# EAGLE library part SST39SF040-70-4C-WHE-T (library SST39SF040_TSOP)
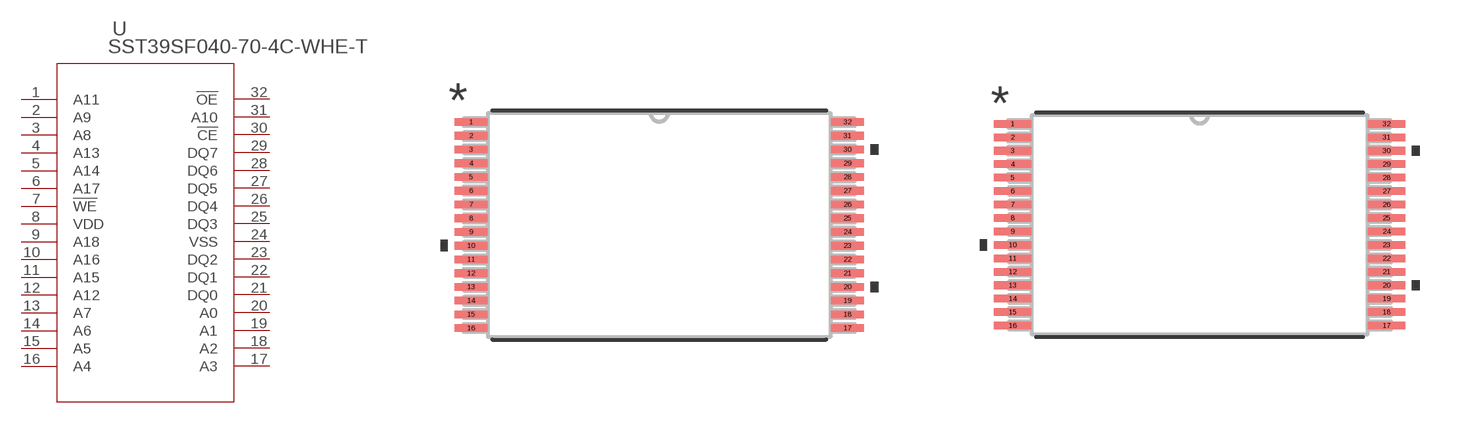
[diagram p0: symbol with the pads of TSOP32_WH_SST_MCH; footprints TSOP32_WH_SST_MCH, TSOP32_WH_SST_MCH-M]

Designator prefix U

## SST39SF040-70-4C-WHE-T (COPYRIGHT: Copyright (C) 2022 Ultra Librarian. All rights reserved.; MANUFACTURER_PART_NUMBER: SST39SF040-70-4C-WHE-T; MFR_NAME: Microchip)  [TSOP32_WH_SST_MCH]
1  A11  in
2  A9  in
3  A8  in
4  A13  in
5  A14  in
6  A17  in
7  !WE  pas
8  VDD  pwr
9  A18  in
10  A16  in
11  A15  in
12  A12  in
13  A7  in
14  A6  in
15  A5  in
16  A4  in
17  A3  in
18  A2  in
19  A1  in
20  A0  in
21  DQ0
22  DQ1
23  DQ2
24  VSS  pwr
25  DQ3
26  DQ4
27  DQ5
28  DQ6
29  DQ7
30  !CE  pas
31  A10  in
32  !OE  out

## SST39SF040-70-4C-WHE-TTSOP32_WH_SST_MCH-M (COPYRIGHT: Copyright (C) 2022 Ultra Librarian. All rights reserved.; MANUFACTURER_PART_NUMBER: SST39SF040-70-4C-WHE-T; MFR_NAME: Microchip)  [TSOP32_WH_SST_MCH-M]
Pads as for TSOP32_WH_SST_MCH

## SST39SF040-70-4C-WHE-TTSOP32_WH_SST_MCH-L (COPYRIGHT: Copyright (C) 2022 Ultra Librarian. All rights reserved.; MANUFACTURER_PART_NUMBER: SST39SF040-70-4C-WHE-T; MFR_NAME: Microchip)  [TSOP32_WH_SST_MCH-L]
Pads as for TSOP32_WH_SST_MCH

## Footprint TSOP32_WH_SST_MCH (pad centres in mm)
smd 1.206 x 0.279: 1 -6.852,3.75; 2 -6.852,3.25; 3 -6.852,2.75; 4 -6.852,2.25; 5 -6.852,1.75; 6 -6.852,1.25; 7 -6.852,0.75; 8 -6.852,0.25; 9 -6.852,-0.25; 10 -6.852,-0.75; 11 -6.852,-1.25; 12 -6.852,-1.75; 13 -6.852,-2.25; 14 -6.852,-2.75; 15 -6.852,-3.25; 16 -6.852,-3.75; 17 6.852,-3.75; 18 6.852,-3.25; 19 6.852,-2.75; 20 6.852,-2.25; 21 6.852,-1.75; 22 6.852,-1.25; 23 6.852,-0.75; 24 6.852,-0.25; 25 6.852,0.25; 26 6.852,0.75; 27 6.852,1.25; 28 6.852,1.75; 29 6.852,2.25; 30 6.852,2.75; 31 6.852,3.25; 32 6.852,3.75

## Footprint TSOP32_WH_SST_MCH-M (pad centres in mm)
smd 1.41 x 0.279: 1 -6.953,3.75; 2 -6.953,3.25; 3 -6.953,2.75; 4 -6.953,2.25; 5 -6.953,1.75; 6 -6.953,1.25; 7 -6.953,0.75; 8 -6.953,0.25; 9 -6.953,-0.25; 10 -6.953,-0.75; 11 -6.953,-1.25; 12 -6.953,-1.75; 13 -6.953,-2.25; 14 -6.953,-2.75; 15 -6.953,-3.25; 16 -6.953,-3.75; 17 6.953,-3.75; 18 6.953,-3.25; 19 6.953,-2.75; 20 6.953,-2.25; 21 6.953,-1.75; 22 6.953,-1.25; 23 6.953,-0.75; 24 6.953,-0.25; 25 6.953,0.25; 26 6.953,0.75; 27 6.953,1.25; 28 6.953,1.75; 29 6.953,2.25; 30 6.953,2.75; 31 6.953,3.25; 32 6.953,3.75

## Footprint TSOP32_WH_SST_MCH-L (pad centres in mm)
smd 1.003 x 0.229: 1 -6.75,3.75; 2 -6.75,3.25; 3 -6.75,2.75; 4 -6.75,2.25; 5 -6.75,1.75; 6 -6.75,1.25; 7 -6.75,0.75; 8 -6.75,0.25; 9 -6.75,-0.25; 10 -6.75,-0.75; 11 -6.75,-1.25; 12 -6.75,-1.75; 13 -6.75,-2.25; 14 -6.75,-2.75; 15 -6.75,-3.25; 16 -6.75,-3.75; 17 6.75,-3.75; 18 6.75,-3.25; 19 6.75,-2.75; 20 6.75,-2.25; 21 6.75,-1.75; 22 6.75,-1.25; 23 6.75,-0.75; 24 6.75,-0.25; 25 6.75,0.25; 26 6.75,0.75; 27 6.75,1.25; 28 6.75,1.75; 29 6.75,2.25; 30 6.75,2.75; 31 6.75,3.25; 32 6.75,3.75